# Altium footprint library QFP49P50_900X900X120L60X22T339N.PcbLib: 1 footprints
Each footprint in its own frame and in the unit in brackets; x right, y up, seen from the top. Pads: shape width x height; smd on the part's side, far side on the other; paste and mask are expansions set on the pad; w line width, h text height; cw(c..) or ccw(c..) is an arc to the next point about the centre after c.
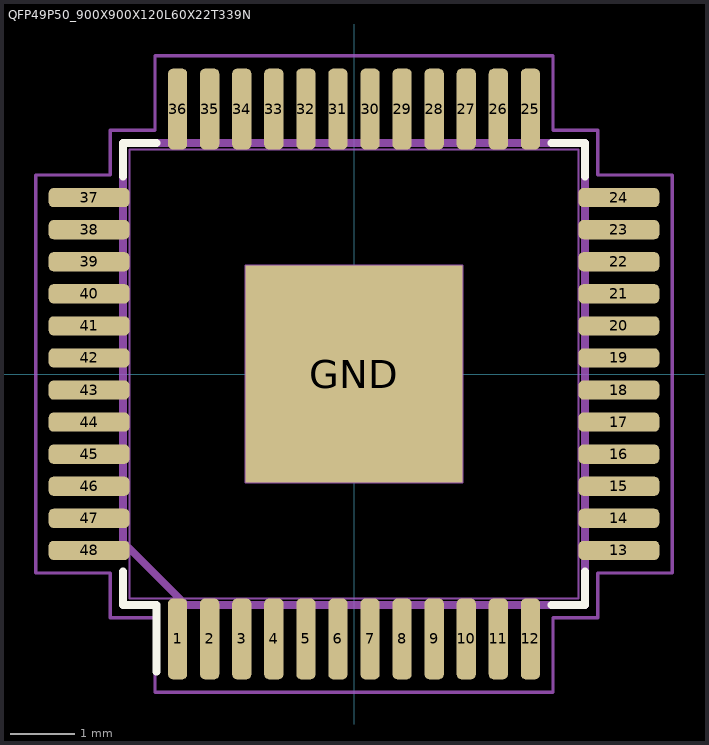
[diagram p0: the footprint, top view; thin cyan lines are the x and y axes]

## QFP49P50_900X900X120L60X22T339N [mm] "Quad Flat Pack (QFP with Tab), 0.50 mm pitch; square, 12 pin X 12 pin, 7.00 mm L X 7.00 mm W X 1.20 mm H body"
height 1.2
pads (49):
  rrect53% 0.3x1.26 smd: 1(-2.75,-4.13) 2(-2.25,-4.13) 3(-1.75,-4.13) 4(-1.25,-4.13) 5(-0.75,-4.13) 6(-0.25,-4.13) 7(0.25,-4.13) 8(0.75,-4.13) 9(1.25,-4.13) 10(1.75,-4.13) 11(2.25,-4.13) 12(2.75,-4.13) 25(2.75,4.13) 26(2.25,4.13) 27(1.75,4.13) 28(1.25,4.13) 29(0.75,4.13) 30(0.25,4.13) 31(-0.25,4.13) 32(-0.75,4.13) 33(-1.25,4.13) 34(-1.75,4.13) 35(-2.25,4.13) 36(-2.75,4.13)
  rrect53% 1.26x0.3 smd: 13(4.13,-2.75) 14(4.13,-2.25) 15(4.13,-1.75) 16(4.13,-1.25) 17(4.13,-0.75) 18(4.13,-0.25) 19(4.13,0.25) 20(4.13,0.75) 21(4.13,1.25) 22(4.13,1.75) 23(4.13,2.25) 24(4.13,2.75) 37(-4.13,2.75) 38(-4.13,2.25) 39(-4.13,1.75) 40(-4.13,1.25) 41(-4.13,0.75) 42(-4.13,0.25) 43(-4.13,-0.25) 44(-4.13,-0.75) 45(-4.13,-1.25) 46(-4.13,-1.75) 47(-4.13,-2.25) 48(-4.13,-2.75)
  rect 3.39x3.39 smd paste-3.39: GND(0,0)
Top Overlay:
  lines w0.12: -3.6,-3.08 -3.6,-3.6 -3.08,-3.6 -3.08,-4.64 ; -3.6,3.08 -3.6,3.6 -3.08,3.6 ; 3.08,-3.6 3.6,-3.6 3.6,-3.08 ; 3.08,3.6 3.6,3.6 3.6,3.08
Top Paste:
  region: 1.45,-1.45 0.25,-1.45 0.25,-0.25 1.45,-0.25
  region: 1.45,0.25 0.25,0.25 0.25,1.45 1.45,1.45
  region: -0.25,-1.45 -1.45,-1.45 -1.45,-0.25 -0.25,-0.25
  region: -0.25,0.25 -1.45,0.25 -1.45,1.45 -0.25,1.45
Mechanical 3:
  lines w0.12: -3.6,-2.623 -2.623,-3.6 3.6,-3.6 3.6,3.6 -3.6,3.6 -3.6,-2.623
Mechanical 5:
  drawing of 200 lines, arcs and shapes, not listed
Mechanical 7:
  circle w0.05: c0,0 r0.25
  lines w0.05: -0.35,0 0.35,0 ; 0,-0.35 0,0.35 ; -4.96,-3.1 -4.96,3.1 -3.8,3.1 -3.8,3.8 -3.1,3.8 -3.1,4.96 3.1,4.96 3.1,3.8 3.8,3.8 3.8,3.1 4.96,3.1 4.96,-3.1 3.8,-3.1 3.8,-3.8 3.1,-3.8 3.1,-4.96 -3.1,-4.96 -3.1,-3.8 -3.8,-3.8 -3.8,-3.1 -4.96,-3.1
Mechanical 9:
  text "'.Designator'" at -5.563,-0.398 h1.02
3D body: height 1.2, standoff 0, extent -4.96,-4.96 4.96,4.96
3D body "TUSB4020BIPHP.STEP": height 1.11, standoff -0.09, extent -4.5,-4.5 4.5,4.5